# EAGLE library part 74*635 (library 74xx-eu)
32-bit EDAC error detection and correction
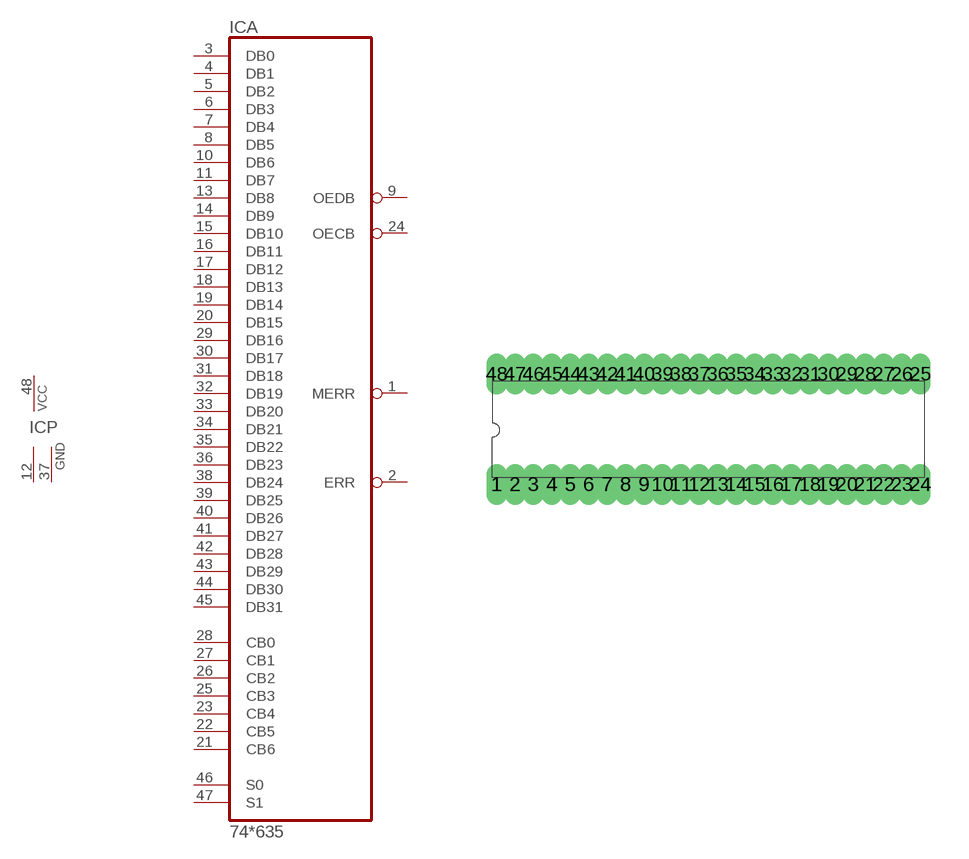
[diagram p265: symbol with the pads of DIL48; footprint DIL48]

Designator prefix IC; gates A=74635 P=PWR2GND

## 74635JD, 74ALS635JD  [DIL48]
1  A:MERR  out
2  A:ERR  out
3  A:DB0
4  A:DB1
5  A:DB2
6  A:DB3
7  A:DB4
8  A:DB5
9  A:OEDB  oc
10  A:DB6
11  A:DB7
12  P:GND  pwr
13  A:DB8
14  A:DB9
15  A:DB10
16  A:DB11
17  A:DB12
18  A:DB13
19  A:DB14
20  A:DB15
21  A:CB6
22  A:CB5
23  A:CB4
24  A:OECB  oc
25  A:CB3
26  A:CB2
27  A:CB1
28  A:CB0
29  A:DB16
30  A:DB17
31  A:DB18
32  A:DB19
33  A:DB20
34  A:DB21
35  A:DB22
36  A:DB23
37  P:GND  pwr
38  A:DB24
39  A:DB25
40  A:DB26
41  A:DB27
42  A:DB28
43  A:DB29
44  A:DB30
45  A:DB31
46  A:S0  in
47  A:S1  in
48  P:VCC  pwr

## Footprint DIL48 (pad centres in mm)
Dual In Line Package
drill 0.203 long: 1 -7.303,-1.905; 2 -6.668,-1.905; 3 -6.032,-1.905; 4 -5.397,-1.905; 5 -4.763,-1.905; 6 -4.128,-1.905; 7 -3.493,-1.905; 8 -2.857,-1.905; 9 -2.223,-1.905; 10 -1.587,-1.905; 11 -0.953,-1.905; 12 -0.318,-1.905; 13 0.318,-1.905; 14 0.953,-1.905; 15 1.587,-1.905; 16 2.223,-1.905; 17 2.857,-1.905; 18 3.493,-1.905; 19 4.128,-1.905; 20 4.763,-1.905; 21 5.397,-1.905; 22 6.032,-1.905; 23 6.668,-1.905; 24 7.303,-1.905; 25 7.303,1.905; 26 6.668,1.905; 27 6.032,1.905; 28 5.397,1.905; 29 4.763,1.905; 30 4.128,1.905; 31 3.493,1.905; 32 2.857,1.905; 33 2.223,1.905; 34 1.587,1.905; 35 0.953,1.905; 36 0.318,1.905; 37 -0.318,1.905; 38 -0.953,1.905; 39 -1.587,1.905; 40 -2.223,1.905; 41 -2.857,1.905; 42 -3.493,1.905; 43 -4.128,1.905; 44 -4.763,1.905; 45 -5.397,1.905; 46 -6.032,1.905; 47 -6.668,1.905; 48 -7.303,1.905